# Altium footprint library 球球库.PcbLib: 29 footprints (part 1 of 2)
Each footprint in its own frame and in the unit in brackets; x right, y up, seen from the top. Pads: shape width x height; smd on the part's side, far side on the other; paste and mask are expansions set on the pad; w line width, h text height; cw(c..) or ccw(c..) is an arc to the next point about the centre after c.
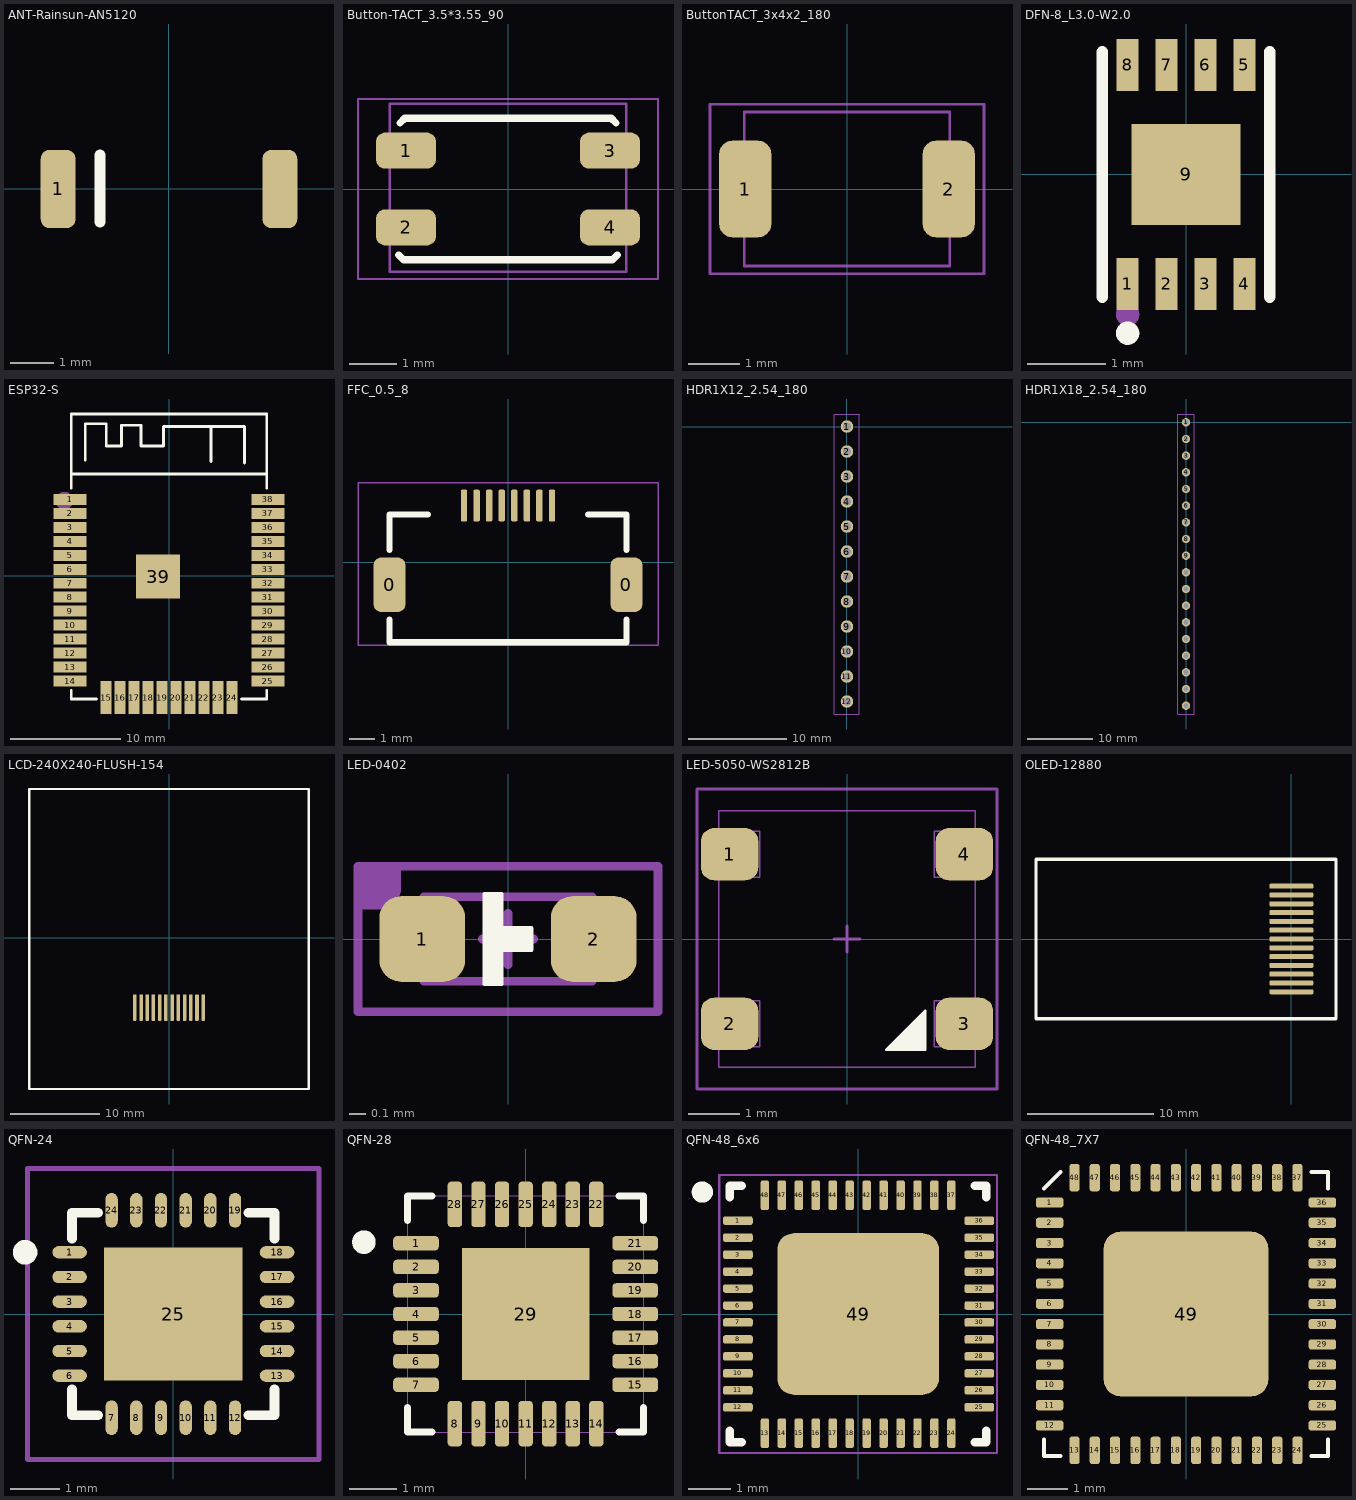
[diagram p0: the footprints below, top view; thin cyan lines are the x and y axes]

## ANT-Rainsun-AN5120 [mm] "选择焊盘"
height 4.3
pads (2):
  rrect50% 0.8x1.8 smd: 1(-2.54,0) ""(2.563,0)
Top Overlay:
  lines w0.254: -1.575,-0.762 -1.575,0.787
3D body "123.stp": height 1.32, standoff -0.01, extent -2.573,-0.911 2.542,0.935

## Button-TACT_3.5*3.55_90 [mil]
height 169.29
pads (4):
  rrect50% 50x30 smd: 1(-85,32) 2(-85,-32) 3(85,32) 4(85,-32)
Top Overlay:
  lines w6: -91,-55 -87,-59 87,-59 91,-55 ; -90,55 -85.98,59 86,59 90,55
Mechanical 13:
  lines w2: -98.43,-68.9 98.43,-68.9 98.43,71 -98.43,71 -98.43,-68.9
Mechanical 14:
  lines w2: -125,-75 125,-75 125,75 -125,75 -125,-75
3D body "User Library-KMS231G.STEP": height 55.91, standoff -0.77, extent -90.1,-54.76 91,85

## ButtonTACT_3x4x2_180 [mil]
height 78.74
pads (2):
  rrect50% 40x74 smd: 1(-78,0) 2(78,0)
Mechanical 13:
  lines w2: -78.73,-59.05 78.75,-59.05 78.75,59.06 -78.74,59.06 -78.74,-59.06
Mechanical 14:
  lines w2: -105,-65 105,-65 105,65 -105,65 -105,-65
3D body "20041.stp": height 62.99, standoff 0, extent -78.73,-49.21 78.75,49.22

## DFN-8_L3.0-W2.0 [mm]
pads (9):
  rect 0.28x0.665 smd: 1(-0.75,-1.407) 2(-0.25,-1.407) 3(0.25,-1.407) 4(0.75,-1.407) 5(0.75,1.407) 6(0.25,1.407) 7(-0.25,1.407) 8(-0.75,1.407)
  rect 1.4x1.3 smd: 9(0,0)
Top Overlay:
  circle w0.15: c-0.75,-2.04 r0.075
  lines w0.152: -1.076,-1.576 -1.076,1.576 ; 1.076,-1.576 1.076,1.576
Mechanical 15:
  circle w0.15: c-0.75,-1.8 r0.075

## ESP32-S [mm]
pads (39):
  rect 3x1 smd: 1(-9.041,6.937) 2(-9.041,5.667) 3(-9.041,4.397) 4(-9.041,3.127) 5(-9.041,1.857) 6(-9.041,0.587) 7(-9.041,-0.683) 8(-9.041,-1.953) 9(-9.041,-3.223) 10(-9.041,-4.493) 11(-9.041,-5.763) 12(-9.041,-7.033) 13(-9.041,-8.303) 14(-9.041,-9.573) 25(8.959,-9.573) 26(8.959,-8.303) 27(8.959,-7.033) 28(8.959,-5.763) 29(8.959,-4.493) 30(8.959,-3.223) 31(8.959,-1.953) 32(8.959,-0.683) 33(8.959,0.587) 34(8.959,1.857) 35(8.959,3.127) 36(8.959,4.397) 37(8.959,5.667) 38(8.959,6.937)
  rect 1x3 smd: 15(-5.756,-11.073) 16(-4.486,-11.073) 17(-3.216,-11.073) 18(-1.946,-11.073) 19(-0.676,-11.073) 20(0.594,-11.073) 21(1.864,-11.073) 22(3.134,-11.073) 23(4.404,-11.073) 24(5.674,-11.073)
  rect 4x4 smd: 39(-1.041,-0.073)
Top Overlay:
  lines w0.254: -8.931,-10.438 -8.931,-11.2 -6.645,-11.2 ; -8.931,7.977 -8.931,14.708 8.849,14.708 8.849,7.977 ; -8.931,9.247 8.849,9.247 ; -7.661,10.516 -7.661,13.818 -5.756,13.818 -5.756,11.786 -4.359,11.786 -4.359,13.691 -2.581,13.691 -2.581,11.786 -0.549,11.786 -0.549,13.564 6.817,13.564 6.817,10.262 ; 3.769,10.39 3.769,13.565 ; 6.563,-11.2 8.849,-11.2 8.849,-10.438
Mechanical 15:
  circle w0.8: c-9.566,6.822 r0.4

## FFC_0.5_8 [mil]
height 78.74
pads (10):
  rrect50% 50x86 smd: 0(-185.63,-35) 0(185.63,-35)
  rrect50% 10x50 smd: 1(-68.9,89) 2(-49.21,89) 3(-29.53,89) 4(-9.84,89) 5(9.84,89) 6(29.53,89) 7(49.21,89) 8(68.9,89)
Top Overlay:
  lines w10: -185.63,-125 -185.63,-90 ; -185.63,20 -185.63,75 -125.63,75 ; -185,-125 185,-125 ; 125.63,75 185.63,75 185.63,20 ; 185.63,-125 185.63,-90
Mechanical 14:
  lines w2: -235,-130 -235,125 235,125 235,-130 -235,-130
3D body "fpc.step": height 81.71, standoff -1.16, extent -187.01,-123.5 187.01,86.57

## HDR1X12_2.54_180 [mil]
height 169.29
pads (12):
  round 50 hole 32: 1(0,0) 2(0,-100) 3(0,-200) 4(0,-300) 5(0,-400) 6(0,-500) 7(0,-600) 8(0,-700) 9(0,-800) 10(0,-900) 11(0,-1000) 12(0,-1100)
Mechanical 13:
  lines w2: -50,-1150 50,-1150 50,50 -50,50 -50,-1150
Mechanical 14:
  lines w2: -50,-1150 50,-1150 50,50 -50,50 -50,-1150
3D body "pin_header_aw140-eg-g12d.stp": height 322.83, standoff -118.11, extent -49.18,-1150 49.18,50

## HDR1X18_2.54_180 [mil]
height 169.29
pads (18):
  round 50 hole 32: 1(0,0) 2(0,-100) 3(0,-200) 4(0,-300) 5(0,-400) 6(0,-500) 7(0,-600) 8(0,-700) 9(0,-800) 10(0,-900) 11(0,-1000) 12(0,-1100) 13(0,-1200) 14(0,-1300) 15(0,-1400) 16(0,-1500) 17(0,-1600) 18(0,-1700)
Mechanical 13:
  lines w2: -50,-1750 -50,50 50,50 50,-1750 -50,-1750
Mechanical 14:
  lines w2: -50,-1750 -50,50 50,50 50,-1750 -50,-1750
3D body "pin_header_aw140-eg-g18d.stp": height 322.83, standoff -118.11, extent -49.18,-1750 49.18,50

## LCD-240X240-FLUSH-154 [mm]
height 0.8
pads (12):
  rrect50% 0.4x3 smd: 1(3.851,-7.85) 2(3.151,-7.85) 3(2.451,-7.85) 4(1.751,-7.85) 5(1.051,-7.85) 6(0.351,-7.85) 7(-0.349,-7.85) 8(-1.049,-7.85) 9(-1.749,-7.85) 10(-2.449,-7.85) 11(-3.149,-7.85) 12(-3.849,-7.85)
Top Overlay:
  lines w0.254: -15.748,-17.018 15.748,-17.018 15.748,16.764 -15.748,16.764 -15.748,-17.018
3D body "1.54 TFT IPS - 12P - Flat Flush Mount.stp": height -0.37, standoff -1.9, extent -15.697,-17.018 15.697,16.764

## LED-0402 [mil]
pads (2):
  rrect50% 20x20 smd: 1(-20,0) 2(20,0)
Top Overlay:
  region: -5.5,10.5 -1.5,10.5 -1.5,2.5 5.5,2.5 5.5,-2.5 -1.5,-2.5 -1.5,-10.5 -5.5,-10.5
  lines w1: -5.5,-10.5 -5.5,10.5 -1.5,10.5 -1.5,2.5 5.5,2.5 5.5,-2.5 -1.5,-2.5 -1.5,-10.5 -5.5,-10.5
Mechanical 13:
  lines w2: -6,0 6,0 ; 0,-6 0,6 ; -19.69,-9.84 19.68,-9.84 19.68,9.84 -19.69,9.84 -19.69,-9.84
Mechanical 14:
  region: -35,17 -25,17 -25,12 -25,11.01 -25.76,9.17 -27.17,7.76 -29.01,7 -30,7 -35,7
  lines w2: -35,-17 35,-17 35,17 -35,17 -35,-17
3D body "User Library-led_0402LED0402 red_.STEP": height 17.72, standoff 0, extent -19.88,-9.84 19.89,9.84

## LED-5050-WS2812B [mil]
pads (4):
  rrect50% 44x40 smd: 1(-90,65) 2(-90,-65) 3(90,-65) 4(90,65)
Top Overlay:
  region: 60,-85 30,-85 60,-55
  lines w2: 30,-85 60,-55 60,-85 30,-85
Mechanical 13:
  lines w1: -101.93,-82.45 -66.93,-82.45 -66.93,-47.45 -101.93,-47.45 -101.93,-82.45 ; -101.93,47.46 -101.93,82.46 -66.93,82.46 -66.93,47.46 -101.93,47.46 ; -98.43,-98.43 -98.43,98.43 98.43,98.43 98.43,-98.43 -98.43,-98.43 ; 66.93,-82.45 66.93,-47.45 101.93,-47.45 101.93,-82.45 66.93,-82.45 ; 66.93,47.46 101.93,47.46 101.93,82.46 66.93,82.46 66.93,47.46
  lines w2: -10,0 10,0 ; 0,-10 0,10
Mechanical 14:
  lines w2: -115,-115 115,-115 115,115 -115,115 -115,-115
3D body "11821.STEP": height 69.02, standoff 0.13, extent -106.29,-98.42 106.3,98.43

## OLED-12880 [mm]
height 4.3
pads (13):
  rrect50% 3.5x0.4 smd: 1(0,-4.2) 2(0,-3.5) 3(0,-2.8) 4(0,-2.1) 5(0,-1.4) 6(0,-0.7) 7(0,0) 8(0,0.7) 9(0,1.4) 10(0,2.1) 11(0,2.8) 12(0,3.5) 13(0,4.2)
Top Overlay:
  lines w0.254: -20.32,-6.35 3.556,-6.35 3.556,6.35 -20.32,6.35 -20.32,-6.35
3D body "Ctrl-DualBoard-Down v1.step": height 1.55, standoff 0.09, extent -20.182,-6.25 7.54,6.25

## QFN-24 [mm]
height 0.95
pads (25):
  oval 0.7x0.25 smd: 1(-2.1,1.25) 2(-2.1,0.75) 3(-2.1,0.25) 4(-2.1,-0.25) 5(-2.1,-0.75) 6(-2.1,-1.25) 13(2.1,-1.25) 14(2.1,-0.75) 15(2.1,-0.25) 16(2.1,0.25) 17(2.1,0.75) 18(2.1,1.25)
  oval 0.25x0.7 smd: 7(-1.25,-2.1) 8(-0.75,-2.1) 9(-0.25,-2.1) 10(0.25,-2.1) 11(0.75,-2.1) 12(1.25,-2.1) 19(1.25,2.1) 20(0.75,2.1) 21(0.25,2.1) 22(-0.25,2.1) 23(-0.75,2.1) 24(-1.25,2.1)
  rect 2.8x2.7 smd: 25(0,0)
Top Overlay:
  circle w0.25: c-3,1.25 r0.125
  lines w0.2: -2.05,-1.525 -2.05,-2.05 -1.525,-2.05 ; -2.05,1.525 -2.05,2.05 -1.525,2.05 ; 1.525,-2.05 2.05,-2.05 2.05,-1.525 ; 1.525,2.05 2.05,2.05 2.05,1.525
Mechanical 15:
  lines w0.1: -0.5,0 0.5,0 ; 0,-0.5 0,0.5 ; -2.95,-2.95 2.95,-2.95 2.95,2.95 -2.95,2.95 -2.95,-2.95
3D body "User Library-mpu-6050_qfn-24.stp": height 0.95, standoff 0.05, extent -2.02,-2.02 2.02,2.02

## QFN-28 [mil]
height 169.29
pads (29):
  rrect50% 38x12 smd mask+5: 1(-91.5,59.06) 2(-91.5,39.37) 3(-91.5,19.68) 4(-91.5,0) 5(-91.5,-19.68) 6(-91.5,-39.37) 7(-91.5,-59.06) 15(91.5,-59.06) 16(91.5,-39.37) 17(91.5,-19.68) 18(91.5,0) 19(91.5,19.68) 20(91.5,39.37) 21(91.5,59.06)
  rrect50% 12x38 smd mask+5: 8(-59.06,-91.5) 9(-39.37,-91.5) 10(-19.68,-91.5) 11(0,-91.5) 12(19.68,-91.5) 13(39.37,-91.5) 14(59.06,-91.5) 22(59.06,91.5) 23(39.37,91.5) 24(19.68,91.5) 25(0,91.5) 26(-19.68,91.5) 27(-39.37,91.5) 28(-59.06,91.5)
  rect 106.3x110.24 smd: 29(0,0)
Top Overlay:
  circle w9.84: c-135,60 r4.92
  lines w6: -98.5,-78.16 -98.5,-98.5 -78.16,-98.5 ; -98.5,78.16 -98.5,98.5 -78.16,98.5 ; 78.16,-98.5 98.5,-98.5 98.5,-78.16 ; 78.16,98.5 98.5,98.5 98.5,78.16
Mechanical 1:
  lines w0: -98.5,-98.5 -98.5,98.5 98.5,98.5 98.5,-98.5 -98.5,-98.5 ; -98.5,-65.06 -98.5,-53.06 -98.5,-65.06 ; -98.5,-45.37 -98.5,-33.37 -98.5,-45.37 ; -98.5,-25.68 -98.5,-13.69 -98.5,-25.68 ; -98.5,-6 -98.5,6 -98.5,-6 ; -98.5,13.69 -98.5,25.68 -98.5,13.69 ; -98.5,33.37 -98.5,45.37 -98.5,33.37 ; -98.5,53.06 -98.5,65.06 -98.5,53.06 ; -65.06,-98.5 -53.06,-98.5 -65.06,-98.5 ; -65.06,98.5 -53.06,98.5 -65.06,98.5 ; -45.37,-98.5 -33.37,-98.5 -45.37,-98.5 ; -45.37,98.5 -33.37,98.5 -45.37,98.5 ; -25.68,-98.5 -13.69,-98.5 -25.68,-98.5 ; -25.68,98.5 -13.69,98.5 -25.68,98.5 ; -6,-98.5 6,-98.5 -6,-98.5 ; -6,98.5 6,98.5 -6,98.5 ; 13.69,-98.5 25.68,-98.5 13.69,-98.5 ; 13.69,98.5 25.68,98.5 13.69,98.5 ; 33.37,-98.5 45.37,-98.5 33.37,-98.5 ; 33.37,98.5 45.37,98.5 33.37,98.5 ; 53.06,-98.5 65.06,-98.5 53.06,-98.5 ; 53.06,98.5 65.06,98.5 53.06,98.5 ; 98.5,-65.06 98.5,-53.06 98.5,-65.06 ; 98.5,-45.37 98.5,-33.37 98.5,-45.37 ; 98.5,-25.68 98.5,-13.69 98.5,-25.68 ; 98.5,-6 98.5,6 98.5,-6 ; 98.5,13.69 98.5,25.68 98.5,13.69 ; 98.5,33.37 98.5,45.37 98.5,33.37 ; 98.5,53.06 98.5,65.06 98.5,53.06
3D body "321.stp": height 35.43, standoff 0, extent -98.5,-98.5 98.35,98.35

## QFN-48_6x6 [mm]
pads (49):
  rrect50% 0.7x0.2 smd: 1(-2.835,2.2) 2(-2.835,1.8) 3(-2.835,1.4) 4(-2.835,1) 5(-2.835,0.6) 6(-2.835,0.2) 7(-2.835,-0.2) 8(-2.835,-0.6) 9(-2.835,-1) 10(-2.835,-1.4) 11(-2.835,-1.8) 12(-2.835,-2.2) 25(2.855,-2.2) 26(2.855,-1.8) 27(2.855,-1.4) 28(2.855,-1) 29(2.855,-0.6) 30(2.855,-0.2) 31(2.855,0.2) 32(2.855,0.6) 33(2.855,1) 34(2.855,1.4) 35(2.855,1.8) 36(2.855,2.2)
  rrect50% 0.2x0.7 smd: 13(-2.2,-2.81) 14(-1.8,-2.81) 15(-1.4,-2.81) 16(-1,-2.81) 17(-0.6,-2.81) 18(-0.2,-2.81) 19(0.2,-2.81) 20(0.6,-2.81) 21(1,-2.81) 22(1.4,-2.81) 23(1.8,-2.81) 24(2.2,-2.81) 37(2.2,2.8) 38(1.8,2.8) 39(1.4,2.8) 40(1,2.8) 41(0.6,2.8) 42(0.2,2.8) 43(-0.2,2.8) 44(-0.6,2.8) 45(-1,2.8) 46(-1.4,2.8) 47(-1.8,2.8) 48(-2.2,2.8)
  rrect20% 3.81x3.81 smd: 49(0,0)
Top Overlay:
  lines w0.2: -3.025,-2.75 -3.025,-3.025 -2.75,-3.025 ; -3.025,2.75 -3.025,3.025 -2.75,3.025 ; 2.75,-3.025 3.025,-3.025 3.025,-2.75 ; 2.75,3.025 3.025,3.025 3.025,2.75
  lines w0.25: -3.675,3 ccw(c-3.675,2.875) -3.669,3
Mechanical 1:
  lines w0.05: -3.275,-3.275 -3.275,3.275 3.275,3.275 3.275,-3.275 -3.275,-3.275
  lines w0.1: -0.5,0 0.5,0 ; 0,-0.5 0,0.5
Mechanical 15:
  lines w0.003: 1.332,0.089 1.383,0.14
3D body: height 1, standoff 0.05, extent -3.029,-3.004 3.029,2.979

## QFN-48_7X7 [mm]
height 4.3
pads (49):
  rrect50% 0.675x0.25 smd: 1(-3.363,2.75) 2(-3.363,2.25) 3(-3.363,1.75) 4(-3.363,1.25) 5(-3.363,0.75) 6(-3.363,0.25) 7(-3.363,-0.25) 8(-3.363,-0.75) 9(-3.363,-1.25) 10(-3.363,-1.75) 11(-3.363,-2.25) 12(-3.363,-2.75) 25(3.363,-2.75) 26(3.363,-2.25) 27(3.363,-1.75) 28(3.363,-1.25) 29(3.363,-0.75) 30(3.363,-0.25) 31(3.363,0.25) 32(3.363,0.75) 33(3.363,1.25) 34(3.363,1.75) 35(3.363,2.25) 36(3.363,2.75)
  rrect50% 0.25x0.675 smd: 13(-2.75,-3.363) 14(-2.25,-3.363) 15(-1.75,-3.363) 16(-1.25,-3.363) 17(-0.75,-3.363) 18(-0.25,-3.363) 19(0.25,-3.363) 20(0.75,-3.363) 21(1.25,-3.363) 22(1.75,-3.363) 23(2.25,-3.363) 24(2.75,-3.363) 37(2.75,3.363) 38(2.25,3.363) 39(1.75,3.363) 40(1.25,3.363) 41(0.75,3.363) 42(0.25,3.363) 43(-0.25,3.363) 44(-0.75,3.363) 45(-1.25,3.363) 46(-1.75,3.363) 47(-2.25,3.363) 48(-2.75,3.363)
  rrect20% 4.064x4.064 smd: 49(0,0)
Top Overlay:
  lines w0.1: -3.5,-3.1 -3.5,-3.5 -3.1,-3.5 ; -3.5,3.1 -3.1,3.5 ; 3.1,-3.5 3.5,-3.5 3.5,-3.1 ; 3.1,3.5 3.5,3.5 3.5,3.1
3D body: height 1, standoff 0.05, extent -3.5,-3.5 3.5,3.5